# EAGLE library part 87264-40_S (library untitled)
RECEPTACAL
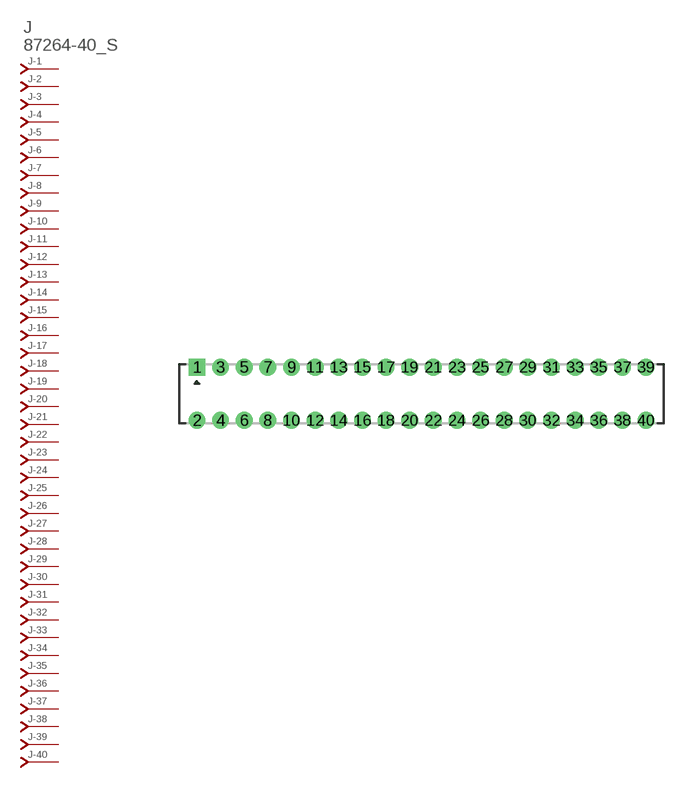
[diagram p299: symbol with the pads of 87264-40; footprint 87264-40]

Designator prefix J; gates -1=J-NV -2=J-N -3=J-N -4=J-N -5=J-N -6=J-N -7=J-N -8=J-N -9=J-N -10=J-N -11=J-N -12=J-N -13=J-N -14=J-N -15=J-N -16=J-N -17=J-N -18=J-N -19=J-N -20=J-N -21=J-N -22=J-N -23=J-N -24=J-N -25=J-N -26=J-N -27=J-N -28=J-N -29=J-N -30=J-N -31=J-N -32=J-N -33=J-N -34=J-N -35=J-N -36=J-N -37=J-N -38=J-N -39=J-N -40=J-N

## 87264-40_S  [87264-40]
1  -1:J  pas
2  -2:J  pas
3  -3:J  pas
4  -4:J  pas
5  -5:J  pas
6  -6:J  pas
7  -7:J  pas
8  -8:J  pas
9  -9:J  pas
10  -10:J  pas
11  -11:J  pas
12  -12:J  pas
13  -13:J  pas
14  -14:J  pas
15  -15:J  pas
16  -16:J  pas
17  -17:J  pas
18  -18:J  pas
19  -19:J  pas
20  -20:J  pas
21  -21:J  pas
22  -22:J  pas
23  -23:J  pas
24  -24:J  pas
25  -25:J  pas
26  -26:J  pas
27  -27:J  pas
28  -28:J  pas
29  -29:J  pas
30  -30:J  pas
31  -31:J  pas
32  -32:J  pas
33  -33:J  pas
34  -34:J  pas
35  -35:J  pas
36  -36:J  pas
37  -37:J  pas
38  -38:J  pas
39  -39:J  pas
40  -40:J  pas

## Footprint 87264-40 (pad centres in mm)
RECEPTACAL Dual Row, Side Entry
drill 0.914 square: 1 -19,2.25
drill 0.914 round: 2 -19,-2.25; 3 -17,2.25; 4 -17,-2.25; 5 -15,2.25; 6 -15,-2.25; 7 -13,2.25; 8 -13,-2.25; 9 -11,2.25; 10 -11,-2.25; 11 -9,2.25; 12 -9,-2.25; 13 -7,2.25; 14 -7,-2.25; 15 -5,2.25; 16 -5,-2.25; 17 -3,2.25; 18 -3,-2.25; 19 -1,2.25; 20 -1,-2.25; 21 1,2.25; 22 1,-2.25; 23 3,2.25; 24 3,-2.25; 25 5,2.25; 26 5,-2.25; 27 7,2.25; 28 7,-2.25; 29 9,2.25; 30 9,-2.25; 31 11,2.25; 32 11,-2.25; 33 13,2.25; 34 13,-2.25; 35 15,2.25; 36 15,-2.25; 37 17,2.25; 38 17,-2.25; 39 19,2.25; 40 19,-2.25